# Altium footprint library PcbLib1.PcbLib: 10 footprints
Each footprint in its own frame and in the unit in brackets; x right, y up, seen from the top. Pads: shape width x height; smd on the part's side, far side on the other; paste and mask are expansions set on the pad; w line width, h text height; cw(c..) or ccw(c..) is an arc to the next point about the centre after c.
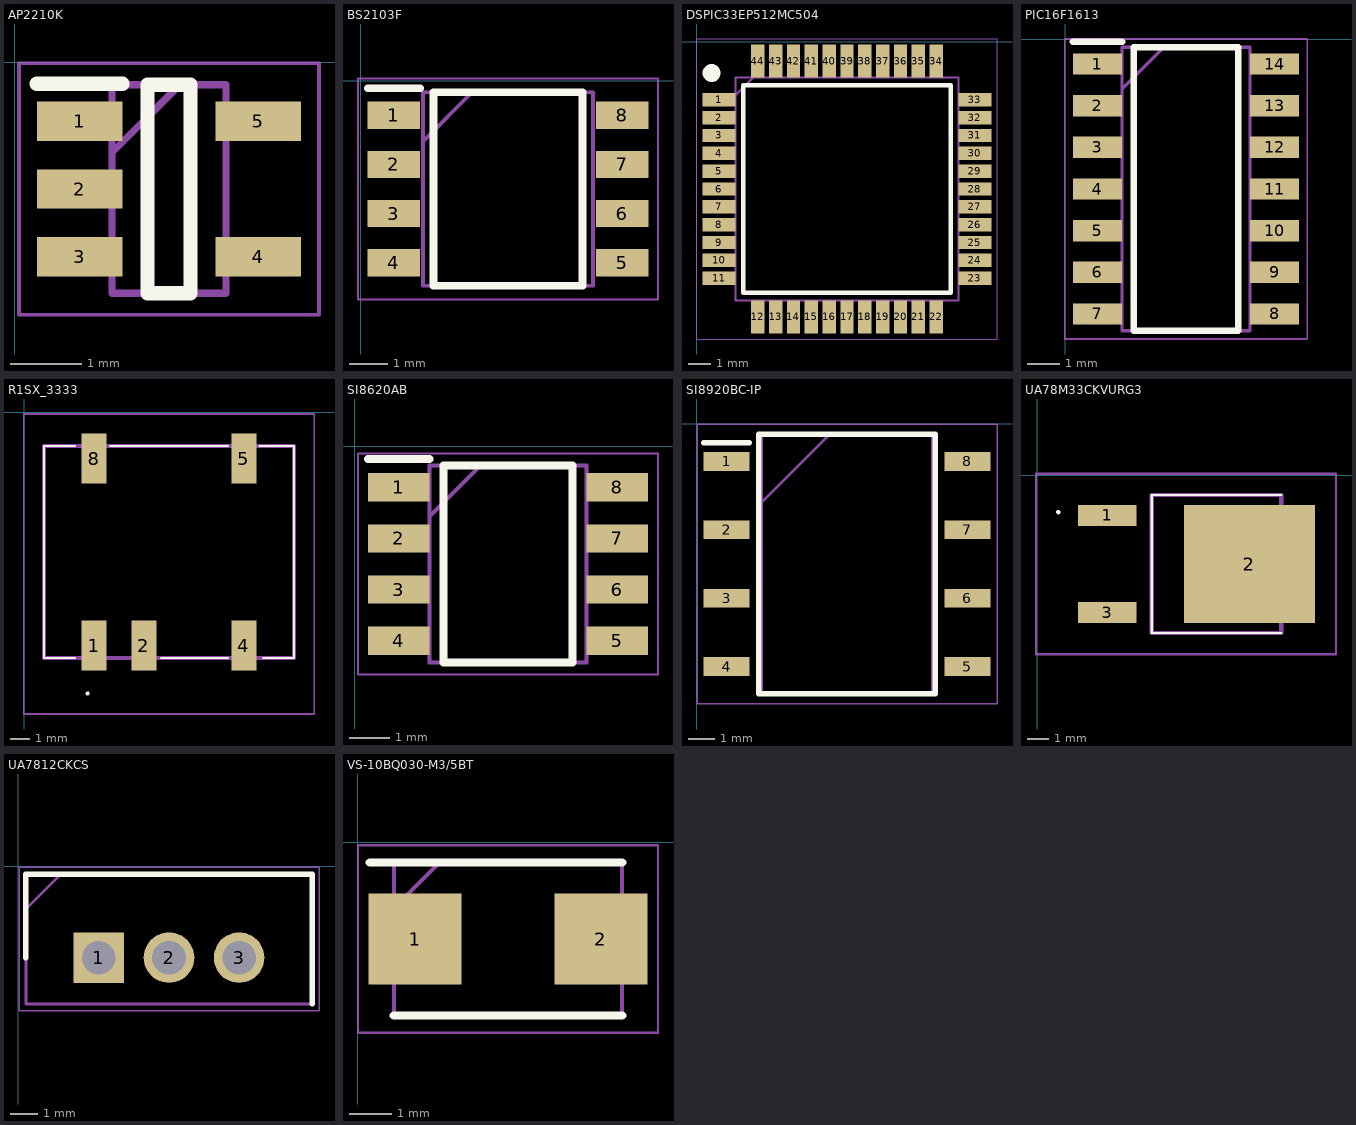
[diagram p0: the footprints below, top view; thin cyan lines are the x and y axes]

## AP2210K [mm]
pads (5):
  rect 1.2x0.55 smd: 1(0.909,-0.828) 2(0.909,-1.778) 3(0.909,-2.728) 4(3.409,-2.728) 5(3.409,-0.828)
Top Overlay:
  lines w0.2: 0.309,-0.303 1.509,-0.303 ; 1.859,-3.238 2.459,-3.238 2.459,-0.318 1.859,-0.318 1.859,-3.238
Mechanical 15:
  lines w0.1: 1.359,-1.268 2.309,-0.318 ; 1.359,-3.238 2.959,-3.238 2.959,-0.318 1.359,-0.318 1.359,-3.238
Mechanical 20:
  lines w0.05: 0.059,-3.538 4.259,-3.538 4.259,-0.018 0.059,-0.018 0.059,-3.538

## BS2103F [mm]
pads (8):
  rect 1.35x0.7 smd: 1(0.86,-0.889) 2(0.86,-2.159) 3(0.86,-3.429) 4(0.86,-4.699) 5(6.76,-4.699) 6(6.76,-3.429) 7(6.76,-2.159) 8(6.76,-0.889)
Top Overlay:
  lines w0.2: 0.185,-0.189 1.535,-0.189 ; 1.885,-5.294 5.735,-5.294 5.735,-0.294 1.885,-0.294 1.885,-5.294
Mechanical 15:
  lines w0.1: 1.61,-1.564 2.88,-0.294 ; 1.61,-5.294 6.01,-5.294 6.01,-0.294 1.61,-0.294 1.61,-5.294
Mechanical 20:
  lines w0.05: -0.065,-5.644 7.685,-5.644 7.685,0.056 -0.065,0.056 -0.065,-5.644

## DSPIC33EP512MC504 [mm]
pads (44):
  rect 1.475x0.6 smd: 1(0.993,-2.604) 2(0.993,-3.404) 3(0.993,-4.204) 4(0.993,-5.004) 5(0.993,-5.804) 6(0.993,-6.604) 7(0.993,-7.404) 8(0.993,-8.204) 9(0.993,-9.004) 10(0.993,-9.804) 11(0.993,-10.604) 23(12.469,-10.604) 24(12.469,-9.804) 25(12.469,-9.004) 26(12.469,-8.204) 27(12.469,-7.404) 28(12.469,-6.604) 29(12.469,-5.804) 30(12.469,-5.004) 31(12.469,-4.204) 32(12.469,-3.404) 33(12.469,-2.604)
  rect 0.6x1.475 smd: 12(2.731,-12.342) 13(3.531,-12.342) 14(4.331,-12.342) 15(5.131,-12.342) 16(5.931,-12.342) 17(6.731,-12.342) 18(7.531,-12.342) 19(8.331,-12.342) 20(9.131,-12.342) 21(9.931,-12.342) 22(10.731,-12.342) 34(10.731,-0.866) 35(9.931,-0.866) 36(9.131,-0.866) 37(8.331,-0.866) 38(7.531,-0.866) 39(6.731,-0.866) 40(5.931,-0.866) 41(5.131,-0.866) 42(4.331,-0.866) 43(3.531,-0.866) 44(2.731,-0.866)
Top Overlay:
  circle w0.4: c0.656,-1.404 r0.2
  lines w0.2: 2.081,-11.254 11.381,-11.254 11.381,-1.954 2.081,-1.954 2.081,-11.254
Mechanical 15:
  lines w0.1: 1.731,-2.404 2.531,-1.604 ; 1.731,-11.604 11.731,-11.604 11.731,-1.604 1.731,-1.604 1.731,-11.604
Mechanical 20:
  lines w0.05: 0.006,-13.329 13.456,-13.329 13.456,0.121 0.006,0.121 0.006,-13.329

## PIC16F1613 [mm]
pads (14):
  rect 1.5x0.65 smd: 1(0.983,-0.762) 2(0.983,-2.032) 3(0.983,-3.302) 4(0.983,-4.572) 5(0.983,-5.842) 6(0.983,-7.112) 7(0.983,-8.382) 8(6.383,-8.382) 9(6.383,-7.112) 10(6.383,-5.842) 11(6.383,-4.572) 12(6.383,-3.302) 13(6.383,-2.032) 14(6.383,-0.762)
Top Overlay:
  lines w0.2: 0.233,-0.087 1.733,-0.087 ; 2.083,-8.897 2.083,-0.247 5.283,-0.247 5.283,-8.897 2.083,-8.897
Mechanical 15:
  lines w0.1: 1.733,-1.517 3.003,-0.247 ; 1.733,-8.897 1.733,-0.247 5.633,-0.247 5.633,-8.897 1.733,-8.897
Mechanical 20:
  lines w0.05: -0.017,-9.147 -0.017,0.003 7.383,0.003 7.383,-9.147 -0.017,-9.147

## R1SX_3333 [mm]
pads (5):
  rect 1.27x2.54 smd: 1(3.551,-11.877) 2(6.091,-11.877) 4(11.181,-11.877) 5(11.181,-2.347) 8(3.551,-2.347)
Top Overlay:
  lines w0.1: 2.566,-12.512 0.991,-12.512 0.991,-1.712 2.566,-1.712 ; 4.366,-1.712 10.366,-1.712 ; 6.966,-12.512 10.366,-12.512 ; 11.966,-1.712 13.741,-1.712 13.741,-12.512 12.166,-12.512 ; 3.166,-14.312 ccw(c3.216,-14.312) 3.266,-14.312 ccw(c3.216,-14.312) 3.166,-14.312
Mechanical 15:
  lines w0.2: 0.991,-12.512 13.741,-12.512 13.741,-1.712 0.991,-1.712 0.991,-12.512
Mechanical 20:
  lines w0.1: -0.034,-15.362 14.766,-15.362 14.766,-0.077 -0.034,-0.077 -0.034,-15.362

## SI8620AB [mm]
pads (8):
  rect 1.525x0.7 smd: 1(1.098,-1.016) 2(1.098,-2.286) 3(1.098,-3.556) 4(1.098,-4.826) 5(6.522,-4.826) 6(6.522,-3.556) 7(6.522,-2.286) 8(6.522,-1.016)
Top Overlay:
  lines w0.2: 0.335,-0.316 1.86,-0.316 ; 2.21,-5.371 5.41,-5.371 5.41,-0.471 2.21,-0.471 2.21,-5.371
Mechanical 15:
  lines w0.1: 1.86,-1.741 3.13,-0.471 ; 1.86,-5.371 5.76,-5.371 5.76,-0.471 1.86,-0.471 1.86,-5.371
Mechanical 20:
  lines w0.05: 0.085,-5.671 7.535,-5.671 7.535,-0.171 0.085,-0.171 0.085,-5.671

## SI8920BC-IP [mm]
pads (8):
  rect 1.7x0.7 smd: 1(1.113,-1.397) 2(1.113,-3.937) 3(1.113,-6.477) 4(1.113,-9.017) 5(10.063,-9.017) 6(10.063,-6.477) 7(10.063,-3.937) 8(10.063,-1.397)
Top Overlay:
  lines w0.2: 0.263,-0.697 1.963,-0.697 ; 2.313,-10.032 8.863,-10.032 8.863,-0.382 2.313,-0.382 2.313,-10.032
Mechanical 15:
  lines w0.1: 2.413,-2.922 4.953,-0.382 ; 2.413,-10.032 8.763,-10.032 8.763,-0.382 2.413,-0.382 2.413,-10.032
Mechanical 20:
  lines w0.05: 0.013,-10.407 11.163,-10.407 11.163,-0.007 0.013,-0.007 0.013,-10.407

## UA78M33CKVURG3 [mm]
pads (3):
  rect 2.75x1 smd: 1(3.302,-1.901) 3(3.302,-6.481)
  rect 6.15x5.55 smd: 2(10.002,-4.191)
Top Overlay:
  lines w0.1: 11.502,-7.441 5.402,-7.441 5.402,-0.941 11.502,-0.941
  lines w0.104: 0.949,-1.747 ccw(c1.001,-1.747) 1.053,-1.747 ccw(c1.001,-1.747) 0.949,-1.747
Mechanical 15:
  lines w0.2: 5.402,-7.441 11.502,-7.441 11.502,-0.941 5.402,-0.941 5.402,-7.441
Mechanical 20:
  lines w0.1: -0.051,-8.441 14.077,-8.441 14.077,0.059 -0.051,0.059 -0.051,-8.441

## UA7812CKCS [mm]
pads (3):
  rect 1.83x1.83 / inner round 1.83 / far side rect 1.83x1.83 hole 1.22: 1(2.921,-3.302)
  round 1.83 hole 1.22: 2(5.461,-3.302) 3(8.001,-3.302)
Top Overlay:
  lines w0.2: 0.281,-3.302 0.281,-0.277 10.641,-0.277 10.641,-4.977
Mechanical 15:
  lines w0.1: 0.281,-1.547 1.551,-0.277 ; 0.281,-4.977 10.641,-4.977 10.641,-0.277 0.281,-0.277 0.281,-4.977
Mechanical 20:
  lines w0.05: 0.031,-5.227 10.891,-5.227 10.891,-0.027 0.031,-0.027 0.031,-5.227

## VS-10BQ030-M3/5BT [mm]
pads (2):
  rect 2.2x2.15 smd: 1(1.356,-2.286) 2(5.756,-2.286)
Top Overlay:
  lines w0.2: 0.281,-0.476 6.256,-0.476 ; 0.856,-4.096 6.256,-4.096
Mechanical 15:
  lines w0.1: 0.856,-1.551 1.931,-0.476 ; 0.856,-4.096 0.856,-0.476 6.256,-0.476 6.256,-4.096 0.856,-4.096
Mechanical 20:
  lines w0.05: 0.006,-4.506 0.006,-0.066 7.106,-0.066 7.106,-4.506 0.006,-4.506